# EAGLE library part SIM7000A (library clackboard_lib)
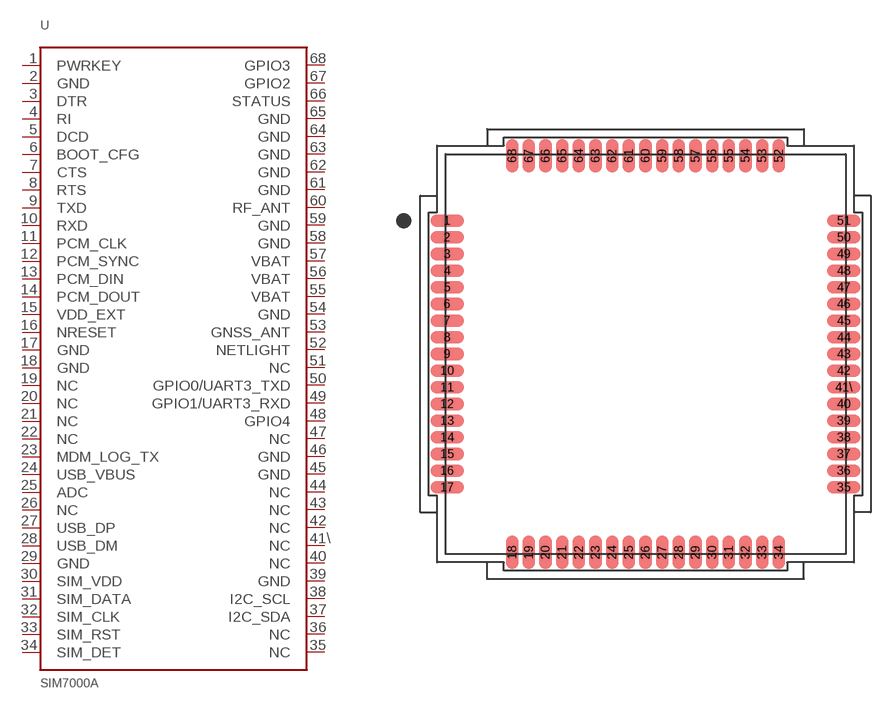
[diagram p14: symbol with the pads of SIM7000A; footprint SIM7000A]

Designator prefix U

## SIM7000A  [SIM7000A]
1  PWRKEY
2  GND  pwr
3  DTR
4  RI
5  DCD
6  BOOT_CFG
7  CTS
8  RTS
9  TXD
10  RXD
11  PCM_CLK
12  PCM_SYNC
13  PCM_DIN
14  PCM_DOUT
15  VDD_EXT  pwr
16  NRESET
17  GND  pwr
18  GND  pwr
19  NC
20  NC
21  NC
22  NC
23  MDM_LOG_TX
24  USB_VBUS  pwr
25  ADC
26  NC
27  USB_DP
28  USB_DM
29  GND  pwr
30  SIM_VDD
31  SIM_DATA
32  SIM_CLK
33  SIM_RST
34  SIM_DET
35  NC
36  NC
37  I2C_SDA
38  I2C_SCL
39  GND  pwr
40  NC
41\  NC
42  NC
43  NC
44  NC
45  GND  pwr
46  GND  pwr
47  NC
48  GPIO4
49  GPIO1/UART3_RXD
50  GPIO0/UART3_TXD
51  NC
52  NETLIGHT
53  GNSS_ANT
54  GND  pwr
55  VBAT  pwr
56  VBAT  pwr
57  VBAT  pwr
58  GND  pwr
59  GND  pwr
60  RF_ANT
61  GND  pwr
62  GND  pwr
63  GND  pwr
64  GND  pwr
65  GND  pwr
66  STATUS
67  GPIO2
68  GPIO3

## Footprint SIM7000A (pad centres in mm)
smd 2 x 0.75: 1 -11.9,8; 2 -11.9,7; 3 -11.9,6; 4 -11.9,5; 5 -11.9,4; 6 -11.9,3; 7 -11.9,2; 8 -11.9,1; 9 -11.9,0; 10 -11.9,-1; 11 -11.9,-2; 12 -11.9,-3; 13 -11.9,-4; 14 -11.9,-5; 15 -11.9,-6; 16 -11.9,-7; 17 -11.9,-8; 35 11.9,-8; 36 11.9,-7; 37 11.9,-6; 38 11.9,-5; 39 11.9,-4; 40 11.9,-3; 41\ 11.9,-2; 42 11.9,-1; 43 11.9,0; 44 11.9,1; 45 11.9,2; 46 11.9,3; 47 11.9,4; 48 11.9,5; 49 11.9,6; 50 11.9,7; 51 11.9,8
smd 0.75 x 2: 18 -8,-11.9; 19 -7,-11.9; 20 -6,-11.9; 21 -5,-11.9; 22 -4,-11.9; 23 -3,-11.9; 24 -2,-11.9; 25 -1,-11.9; 26 0,-11.9; 27 1,-11.9; 28 2,-11.9; 29 3,-11.9; 30 4,-11.9; 31 5,-11.9; 32 6,-11.9; 33 7,-11.9; 34 8,-11.9; 52 8,11.9; 53 7,11.9; 54 6,11.9; 55 5,11.9; 56 4,11.9; 57 3,11.9; 58 2,11.9; 59 1,11.9; 60 0,11.9; 61 -1,11.9; 62 -2,11.9; 63 -3,11.9; 64 -4,11.9; 65 -5,11.9; 66 -6,11.9; 67 -7,11.9; 68 -8,11.9